# Altium footprint library Connector_SMA_Amphenol_132255_Edgemount.PcbLib: 1 footprints
Each footprint in its own frame and in the unit in brackets; x right, y up, seen from the top. Pads: shape width x height; smd on the part's side, far side on the other; paste and mask are expansions set on the pad; w line width, h text height; cw(c..) or ccw(c..) is an arc to the next point about the centre after c.
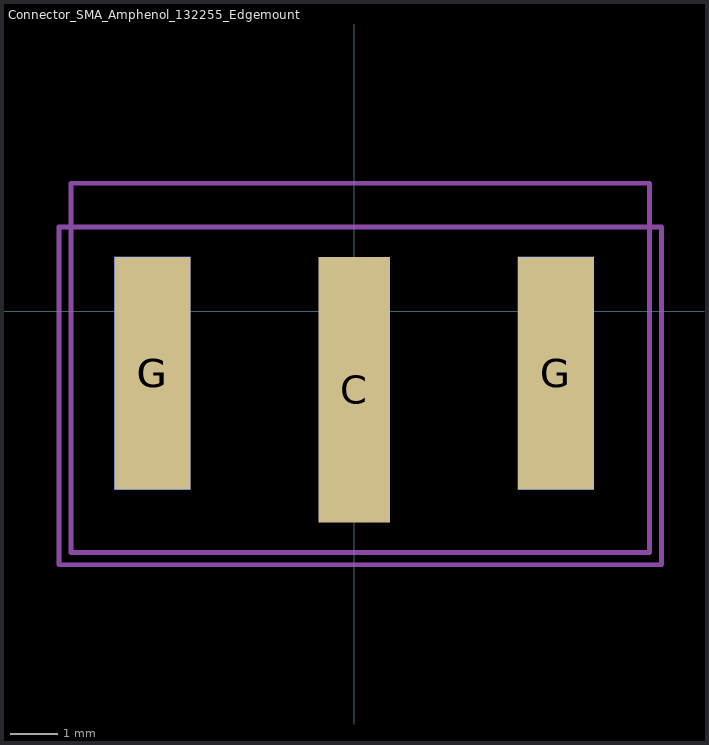
[diagram p0: the footprint, top view; thin cyan lines are the x and y axes]

## Connector_SMA_Amphenol_132255_Edgemount [mm]
pads (5):
  rect 1.5x5.6 smd: C(0,-1.651)
  rect 1.6x4.9 smd far side: G(-4.259,-1.301) G(4.25,-1.301)
  rect 1.6x4.9 smd: G(-4.25,-1.301) G(4.25,-1.301)
Mechanical 13:
  lines w0.1: -5.969,-5.08 6.223,-5.08 6.223,2.7 -5.969,2.7 -5.969,-5.08
Mechanical 15:
  lines w0.1: -6.223,-5.334 6.477,-5.334 6.477,1.778 -6.223,1.778 -6.223,-5.334
3D body: height 0.38, standoff 0, extent -5.207,-3.81 -3.302,1.524
3D body: height 0.38, standoff 0, extent -0.932,-4.625 1,1.524
3D body: height 0.38, standoff 0, extent 3.293,-3.76 5.198,1.574
3D body: height 0.38, standoff 0, extent 3.295,-3.784 5.2,1.55
3D body: height 3.96, standoff 0, extent -5.987,1.588 6.225,2.7
3D body: height 3.96, standoff 0, extent -5.987,1.588 6.225,2.7
3D body: height 0.38, standoff 0, extent -5.202,-3.784 -3.297,1.55